# Altium footprint library TLE6282G.PCBLIB: 1 footprints
Each footprint in its own frame and in the unit in brackets; x right, y up, seen from the top. Pads: shape width x height; smd on the part's side, far side on the other; paste and mask are expansions set on the pad; w line width, h text height; cw(c..) or ccw(c..) is an arc to the next point about the centre after c.
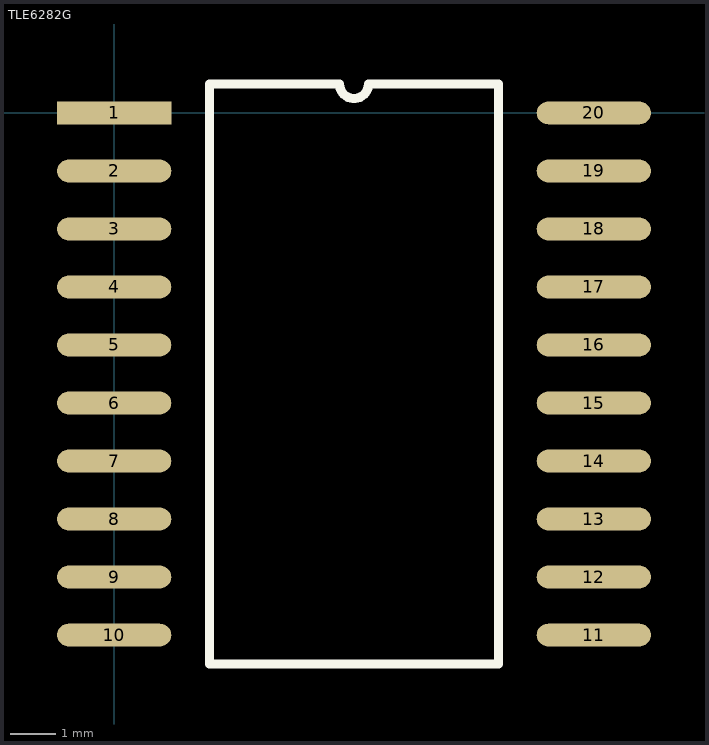
[diagram p0: the footprint, top view; thin cyan lines are the x and y axes]

## TLE6282G [mm]
pads (20):
  rect 2.5x0.5 smd: 1(0,0)
  oval 2.5x0.5 smd: 2(0,-1.27) 3(0,-2.54) 4(0,-3.81) 5(0,-5.08) 6(0,-6.35) 7(0,-7.62) 8(0,-8.89) 9(0,-10.16) 10(0,-11.43) 11(10.5,-11.43) 12(10.5,-10.16) 13(10.5,-8.89) 14(10.5,-7.62) 15(10.5,-6.35) 16(10.5,-5.08) 17(10.5,-3.81) 18(10.5,-2.54) 19(10.5,-1.27) 20(10.5,0)
Top Overlay:
  lines w0.2: 2.085,-12.065 2.085,0.635 4.932,0.635 ccw(c5.25,0.635) 5.567,0.635 8.415,0.635 8.415,-12.065 2.085,-12.065